# Altium schematic symbol library BD733L2FP-CE2.SchLib: 2 symbols
Pins are listed as number, name and electrical type; pins without a type are passive.

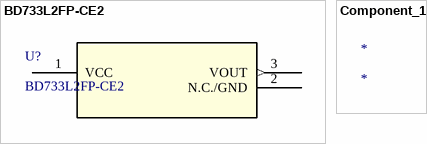
[diagram p0: symbols BD733L2FP-CE2 to Component_1]

## BD733L2FP-CE2
designator U?
No Description Available; Mfr_Name: ROHM Semiconductor; Copyright: Copyright (C) 2022 Ultra Librarian. All rights reserved.; Manufacturer_Part_Number: BD733L2FP-CE2; Digi-Key_Part_Number_1: BD733L2FP-CE2TR-ND; Digi-Key_Part_Number_2: BD733L2FP-CE2CT-ND; Digi-Key_Part_Number_3: BD733L2FP-CE2DKR-ND; RefDes: RefDes; Type: DEV
footprint TO252-3_ROM
pins: 1 VCC (power), 2 N.C./GND, 3 VOUT (out)

## Component_1
designator *